# Altium footprint library Keebs.PcbLib: 219 footprints (part 4 of 14)
Each footprint in its own frame and in the unit in brackets; x right, y up, seen from the top. Pads: shape width x height; smd on the part's side, far side on the other; paste and mask are expansions set on the pad; w line width, h text height; cw(c..) or ccw(c..) is an arc to the next point about the centre after c.
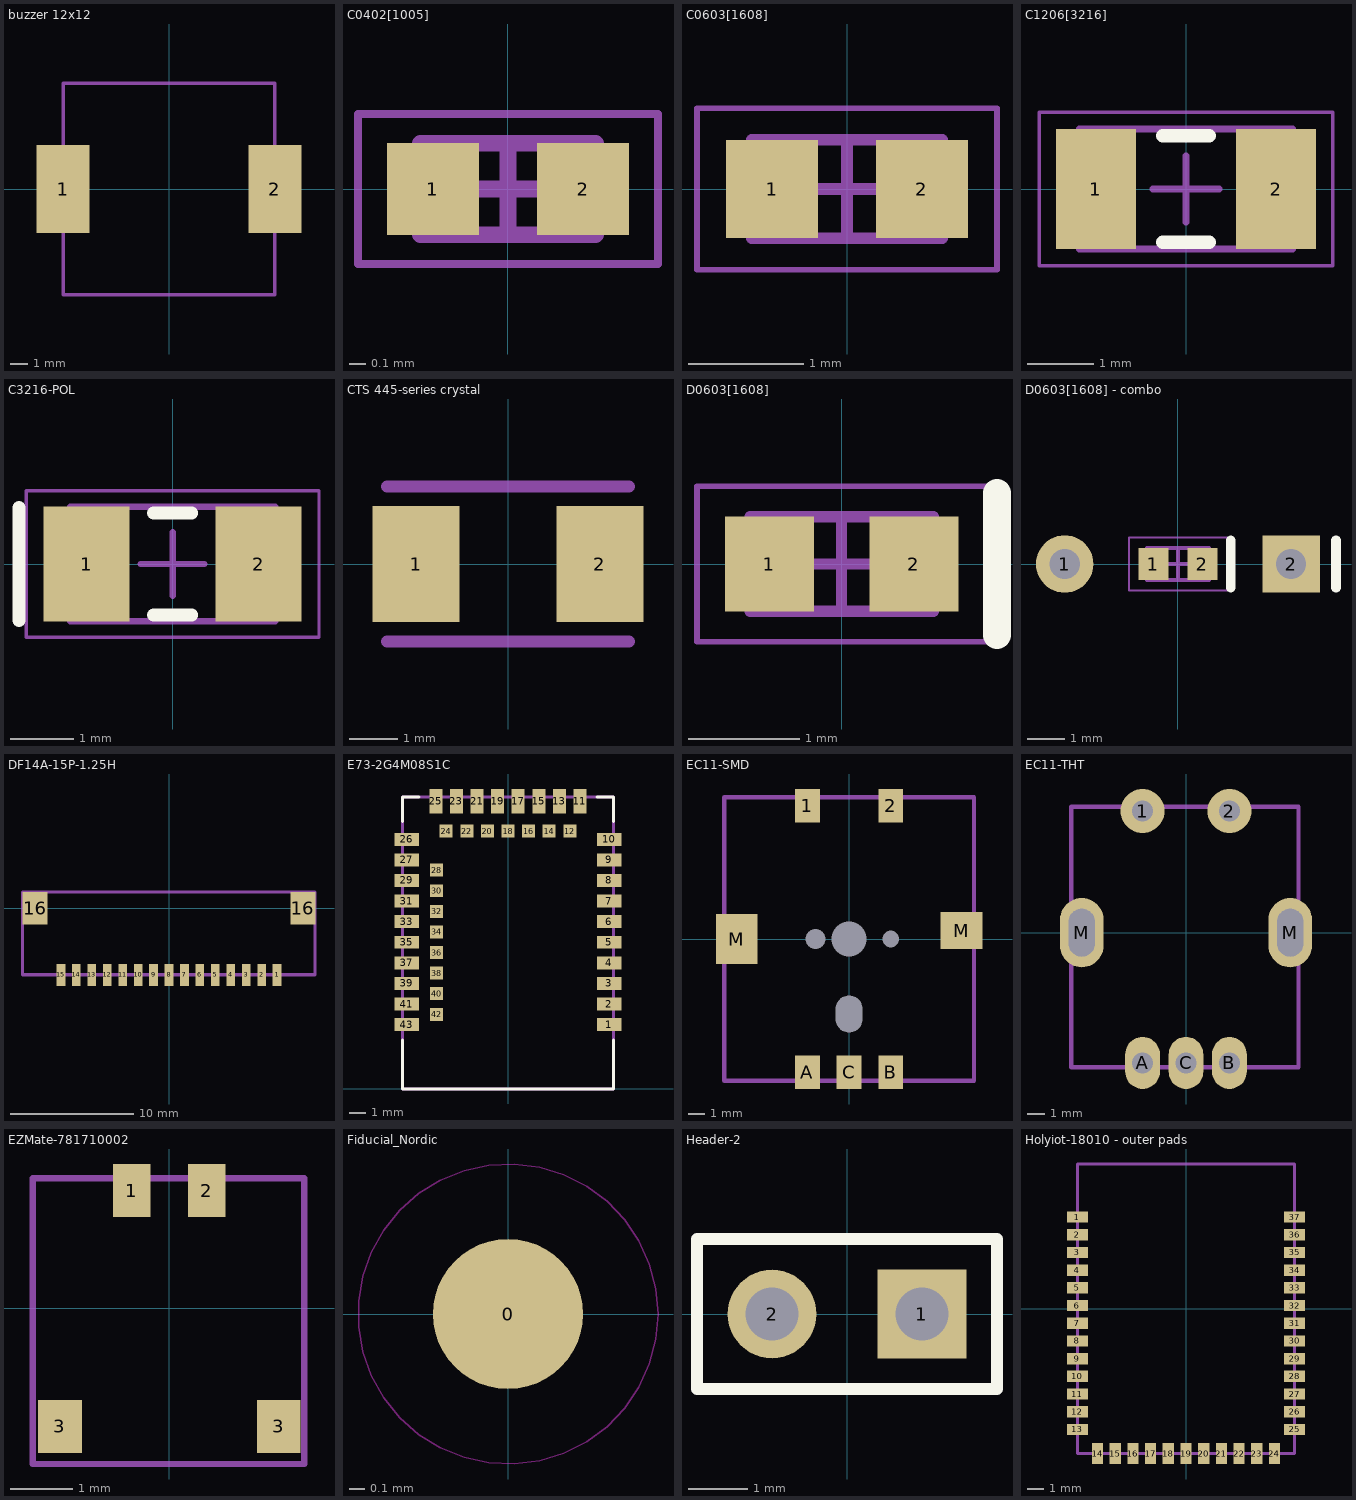
[diagram p3: the footprints below, top view; thin cyan lines are the x and y axes]

## buzzer 12x12 [mm] "Buzzer"
pads (2):
  rect 3x5 smd: 1(-6,0) 2(6,0)
Mechanical 13:
  lines w0.2: -6,-6 6,-6 6,6 -6,6 -6,-6
  text ".Designator" at -2.007,-1.041 h0.5
3D body "CUI_DEVICES_CMT-1203-SMT-TR.step": height 3.05, standoff 0, extent -6,-6 6,6

## C0402[1005] [mm] "Chip Resistor, 2-Leads, Body 1,00x0,50mm, IPC Medium Density"
height 0.5
pads (2):
  rect 0.55x0.55 smd: 1(-0.45,0) 2(0.45,0)
Mechanical 13:
  lines w0.1: -0.525,-0.275 -0.525,0.275 0.525,0.275 0.525,-0.275 -0.525,-0.275
  text ".Designator" at -0.425,-0.1 h0.2
Mechanical 15:
  lines w0.05: -0.9,-0.45 -0.9,0.45 0.9,0.45 0.9,-0.45 -0.9,-0.45
  lines w0.1: -0.275,0 0.275,0 ; 0,-0.275 0,0.275
3D body: height 0.5, standoff 0, extent -0.325,-0.275 0.325,0.275

## C0603[1608] [mm] "Chip Resistor, 2-Leads, Body 1,57x0,80mm, IPC Medium Density"
height 0.5
pads (2):
  rect 0.8x0.85 smd: 1(-0.65,0) 2(0.65,0)
Mechanical 13:
  lines w0.1: -0.825,-0.425 0.825,-0.425 0.825,0.425 -0.825,0.425 -0.825,-0.425
  text ".Designator" at -1.05,-0.275 h0.35
Mechanical 15:
  lines w0.05: -1.3,-0.7 1.3,-0.7 1.3,0.7 -1.3,0.7 -1.3,-0.7
  lines w0.1: -0.425,0 0.425,0 ; 0,-0.425 0,0.425
3D body: height 0.5, standoff 0, extent -0.525,-0.425 0.525,0.425
3D body: height 0.5, standoff 0, extent 0.525,-0.425 0.825,0.425
3D body: height 0.5, standoff 0, extent -0.825,-0.425 -0.525,0.425

## C1206[3216] [mm]
height 1.2
pads (2):
  rect 1.2x1.8 smd: 1(-1.35,0) 2(1.35,0)
Top Overlay:
  lines w0.2: -0.35,-0.8 0.35,-0.8 ; -0.35,0.8 0.35,0.8
Mechanical 13:
  lines w0.1: -1.6,-0.9 1.6,-0.9 1.6,0.9 -1.6,0.9 -1.6,-0.9
  text ".Designator" at -1.245,-0.152 h0.5
Mechanical 15:
  lines w0.05: -2.2,-1.15 2.2,-1.15 2.2,1.15 -2.2,1.15 -2.2,-1.15
  lines w0.1: -0.5,0 0.5,0 ; 0,-0.5 0,0.5
3D body: height 1.2, standoff 0, extent 1.1,-0.9 1.6,0.9
3D body: height 1.2, standoff 0, extent -1.6,-0.9 -1.1,0.9
3D body: height 1.2, standoff 0, extent -1.1,-0.9 1.1,0.9

## C3216-POL [mm] "Chip Capacitor, 2-Leads, Body 3.20x1.60mm, IPC Medium Density"
height 1.8
pads (2):
  rect 1.35x1.8 smd: 1(-1.35,0) 2(1.35,0)
Top Overlay:
  lines w0.2: -2.413,-0.889 -2.413,0.889 ; -0.3,-0.8 0.3,-0.8 ; -0.3,0.8 0.3,0.8
Mechanical 13:
  lines w0.1: -1.61,-0.9 1.61,-0.9 1.61,0.9 -1.61,0.9 -1.61,-0.9
  text ".Designator" at -1.909,-0.145 h0.5
Mechanical 15:
  lines w0.05: -2.3,-1.15 2.3,-1.15 2.3,1.15 -2.3,1.15 -2.3,-1.15
  lines w0.1: -0.5,0 0.5,0 ; 0,-0.5 0,0.5
3D body "Tant Cap SMD size A _ 3216-18.stp": height 1.64, standoff 0.01, extent -1.73,-0.8 1.73,0.8

## CTS 445-series crystal [mm]
pads (2):
  rect 1.8x2.4 smd: 1(-1.9,0) 2(1.9,0)
Mechanical 13:
  lines w0.254: -2.5,-1.6 2.5,-1.6 ; -2.5,1.6 2.5,1.6
  text ".Designator" at -1.372,-0.152 h0.5
3D body "ABM3.STEP": height 1.3, standoff 0, extent -2.5,-1.6 2.5,1.6

## D0603[1608] [mm] "Chip Resistor, 2-Leads, Body 1,57x0,80mm, IPC Medium Density"
height 0.5
pads (2):
  rect 0.8x0.85 smd: 1(-0.65,0) 2(0.65,0)
Top Overlay:
  lines w0.254: 1.397,-0.635 1.397,0.635
Mechanical 13:
  lines w0.1: -0.825,-0.425 0.825,-0.425 0.825,0.425 -0.825,0.425 -0.825,-0.425
  text ".Designator" at -0.675,-0.175 h0.35
Mechanical 15:
  lines w0.05: -1.3,-0.7 1.3,-0.7 1.3,0.7 -1.3,0.7 -1.3,-0.7
  lines w0.1: -0.425,0 0.425,0 ; 0,-0.425 0,0.425
3D body "CD0603-B0xR.STP": height 0.59, standoff -0.01, extent -0.8,-0.45 0.805,0.45

## D0603[1608] - combo [mm] "Chip Resistor, 2-Leads, Body 1,57x0,80mm, IPC Medium Density"
height 0.5
pads (4):
  round 1.524 hole 0.8: 1(-3,0)
  rect 0.8x0.85 smd: 1(-0.65,0) 2(0.65,0)
  rect 1.524x1.524 hole 0.8: 2(3,0)
Top Overlay:
  lines w0.254: 1.397,-0.635 1.397,0.635 ; 4.191,-0.635 4.191,0.635
Mechanical 13:
  lines w0.1: -0.825,-0.425 -0.825,0.425 0.825,0.425 0.825,-0.425 -0.825,-0.425
  text ".Designator" at -0.675,-0.175 h0.35
Mechanical 15:
  lines w0.05: -1.3,-0.7 -1.3,0.7 1.3,0.7 1.3,-0.7 -1.3,-0.7
  lines w0.1: -0.425,0 0.425,0 ; 0,-0.425 0,0.425
3D body "CD0603-B0xR.STP": height 0.59, standoff -0.01, extent -0.8,-0.45 0.805,0.45

## DF14A-15P-1.25H [mm]
pads (17):
  rect 0.7x1.8 smd: 1(8.75,-5.4) 2(7.5,-5.4) 3(6.25,-5.4) 4(5,-5.4) 5(3.75,-5.4) 6(2.5,-5.4) 7(1.25,-5.4) 8(0,-5.4) 9(-1.25,-5.4) 10(-2.5,-5.4) 11(-3.75,-5.4) 12(-5,-5.4) 13(-6.25,-5.4) 14(-7.5,-5.4) 15(-8.75,-5.4)
  rect 2x2.6 smd: 16(-10.85,0) 16(10.85,0)
Mechanical 13:
  lines w0.254: -11.875,-5.385 -11.875,1.315 11.825,1.315 11.825,-5.385 -11.875,-5.385
  text ".Designator" at -3.226,-1.702 h0.5

## E73-2G4M08S1C [mm]
pads (43):
  rect 1.5x0.8 smd: 1(6.25,3.97) 2(6.25,5.24) 3(6.25,6.51) 4(6.25,7.78) 5(6.25,9.05) 6(6.25,10.32) 7(6.25,11.59) 8(6.25,12.86) 9(6.25,14.13) 10(6.25,15.4) 26(-6.25,15.4) 27(-6.25,14.13) 29(-6.25,12.86) 31(-6.25,11.59) 33(-6.25,10.32) 35(-6.25,9.05) 37(-6.25,7.78) 39(-6.25,6.51) 41(-6.25,5.24) 43(-6.25,3.97)
  rect 0.8x1.5 smd: 11(4.44,17.75) 13(3.17,17.75) 15(1.9,17.75) 17(0.63,17.75) 19(-0.64,17.75) 21(-1.91,17.75) 23(-3.18,17.75) 25(-4.45,17.75)
  rect 0.8x0.8 smd: 12(3.81,15.9) 14(2.54,15.9) 16(1.27,15.9) 18(0,15.9) 20(-1.27,15.9) 22(-2.54,15.9) 24(-3.81,15.9) 28(-4.4,13.495) 30(-4.4,12.225) 32(-4.4,10.955) 34(-4.4,9.685) 36(-4.4,8.415) 38(-4.4,7.145) 40(-4.4,5.875) 42(-4.4,4.605)
Top Overlay:
  lines w0.2: -6.5,3 -6.5,0 6.5,0 6.5,3 ; -6.5,16.5 -6.5,18 -5.5,18 ; 5.5,18 6.5,18 6.5,16.5
Mechanical 13:
  lines w0.2: -6.5,0 -6.5,18 6.5,18 6.5,0 -6.5,0
  text ".Designator" at -1.93,9.296 h0.5
3D body "E73-2G4M08S1C.step": height 3, standoff 0.18, extent -6.604,0.017 6.396,18.017

## EC11-SMD [mm]
pads (11):
  rect 1.5x2 smd: 1(-2.5,8) 2(2.5,8) A(-2.5,-8) B(2.5,-8) C(0,-8)
  rect 2.5x3 smd: M(-6.75,0)
  rect 2.5x2.2 smd: M(6.75,0.508)
  round 0 hole 1.2 unplated: ""(-2,0)
  round 0 hole 1.6 slot 2.2 at 90 deg unplated: ""(0,-4.5)
  round 0 hole 2.1 unplated: ""(0,0)
  round 0 hole 1 unplated: ""(2.5,0)
Mechanical 13:
  lines w0.254: -7.493,-8.509 -7.493,8.509 7.493,8.509 7.493,-8.509 -7.493,-8.509
  text ".Designator" at -2.286,2.032 h0.5
3D body "EC11-SMD-15F-blue.step": height 19.5, standoff -0.8, extent -7.5,-8.5 7.5,8.5

## EC11-THT [mm]
pads (7):
  round 2.54 hole 1.2: 1(-2.5,7) 2(2.5,7)
  oval 2x3 hole 1.2: A(-2.5,-7.5) B(2.5,-7.5) C(0,-7.5)
  oval 2.5x4 hole 1.5 slot 2.75 at 90 deg: M(-6,0) M(6,0)
Mechanical 13:
  lines w0.254: -6.604,-7.747 6.477,-7.747 6.477,7.239 -6.604,7.239 -6.604,-7.747
  text ".Designator" at -2.286,2.032 h0.5
3D body "EC11E-15SW.STEP": height 25.9, standoff -2.1, extent -6.549,-7.724 6.549,7.225

## EZMate-781710002 [mm]
pads (4):
  rect 0.6x0.85 smd: 1(-0.6,1.887) 2(0.6,1.887)
  rect 0.7x0.85 smd: 3(-1.75,-1.887) 3(1.75,-1.887)
Mechanical 13:
  lines w0.1: -2.184,-2.489 -2.184,2.083 2.159,2.083 2.159,-2.489 -2.184,-2.489
  text ".Designator" at -1.676,-0.813 h0.7
3D body "781710002.stp": height 1.45, standoff 0, extent -2.113,-2.447 2.087,2.083

## Fiducial_Nordic [mm]
pads (1):
  round 1 smd paste+0 mask+0.5: 0(0,0)
Top Layer keep-out:
  circle w0.01: c0,0 r1

## Header-2 [mm]
pads (2):
  rect 1.5x1.5 hole 0.9: 1(1.27,0)
  round 1.5 hole 0.9: 2(-1.27,0)
Top Overlay:
  lines w0.2: -2.54,-1.27 2.54,-1.27 2.54,1.27 -2.54,1.27 -2.54,-1.27

## Holyiot-18010 - outer pads [mm] "Holyiot long range Nordic nRF52840 chipset BLE module Ceramic Antenna Bluetooth low Energy for Bluetooth mesh"
pads (37):
  rect 1.3x0.7 smd: 1(-6.75,5.7) 2(-6.75,4.6) 3(-6.75,3.5) 4(-6.75,2.4) 5(-6.75,1.3) 6(-6.75,0.2) 7(-6.75,-0.9) 8(-6.75,-2) 9(-6.75,-3.1) 10(-6.75,-4.2) 11(-6.75,-5.3) 12(-6.75,-6.4) 13(-6.75,-7.5) 25(6.75,-7.5) 26(6.75,-6.4) 27(6.75,-5.3) 28(6.75,-4.2) 29(6.75,-3.1) 30(6.75,-2) 31(6.75,-0.9) 32(6.75,0.2) 33(6.75,1.3) 34(6.75,2.4) 35(6.75,3.5) 36(6.75,4.6) 37(6.75,5.7)
  rect 0.7x1.3 smd: 14(-5.5,-9) 15(-4.4,-9) 16(-3.3,-9) 17(-2.2,-9) 18(-1.1,-9) 19(0,-9) 20(1.1,-9) 21(2.2,-9) 22(3.3,-9) 23(4.4,-9) 24(5.5,-9)
Mechanical 13:
  lines w0.2: -6.75,-9 6.75,-9 6.75,9 -6.75,9 -6.75,-9
  text ".Designator" at -1.306,2.061 h0.35
Mechanical 15:
  lines w0.2: -6.75,7 -6.75,-9 6.75,-9 6.75,7
3D body "Holyiot_18010_v2.step": height 1.92, standoff 0, extent -6.75,-9 6.75,9